# EAGLE library part 691401710011 (library Wurth_Elektronik_Electromechanic_Terminal_Blocks_Connectors_rev16b)
WR-TBL Terminal block - serie 401 5,0mm - Spring clamp/Screw less - horizontal entry Code:Con_TBL_Screwless_5.00_6914017100xxB Created 2014-12-22, aslant tao 2014 (C) Würth Elektronik
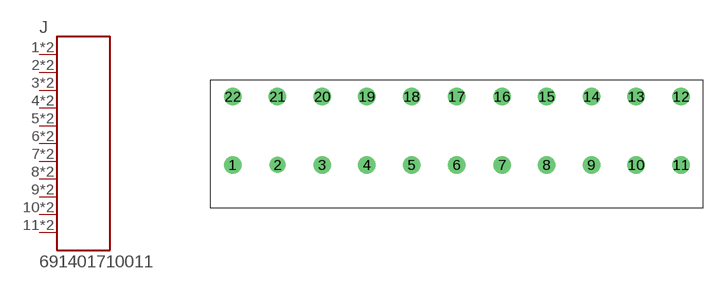
[diagram p217: symbol with the pads of 691401710011; footprint 691401710011]

Designator prefix J

## 691401710011  [691401710011]
1  1  pas
2  2  pas
3  3  pas
4  4  pas
5  5  pas
6  6  pas
7  7  pas
8  8  pas
9  9  pas
10  10  pas
11  11  pas
12  11  pas
13  10  pas
14  9  pas
15  8  pas
16  7  pas
17  6  pas
18  5  pas
19  4  pas
20  3  pas
21  2  pas
22  1  pas

## Footprint 691401710011 (pad centres in mm)
WR-TBL Serie 401 - 5.0mm Screwless Horizontal Entry - 2 mm2 Wires, 11 Pins
drill 1.3: 1 -39.76,-3.81; 3 -29.76,-3.81; 4 -24.76,-3.81; 5 -19.76,-3.81; 6 -14.76,-3.81; 7 -9.68,-3.81; 8 -4.68,-3.81; 9 0.32,-3.81; 10 5.32,-3.81; 11 10.32,-3.81; 12 10.32,3.81; 13 5.32,3.81; 14 0.32,3.81; 15 -4.68,3.81; 16 -9.68,3.81; 17 -14.76,3.81; 18 -19.76,3.81; 19 -24.76,3.81; 20 -29.76,3.81; 21 -34.76,3.81; 22 -39.76,3.81
drill 1.2: 2 -34.76,-3.81